# Altium footprint library Footprint-Lib-ABahlmann-SMD.PcbLib: 105 footprints (part 7 of 7)
Each footprint in its own frame and in the unit in brackets; x right, y up, seen from the top. Pads: shape width x height; smd on the part's side, far side on the other; paste and mask are expansions set on the pad; w line width, h text height; cw(c..) or ccw(c..) is an arc to the next point about the centre after c.
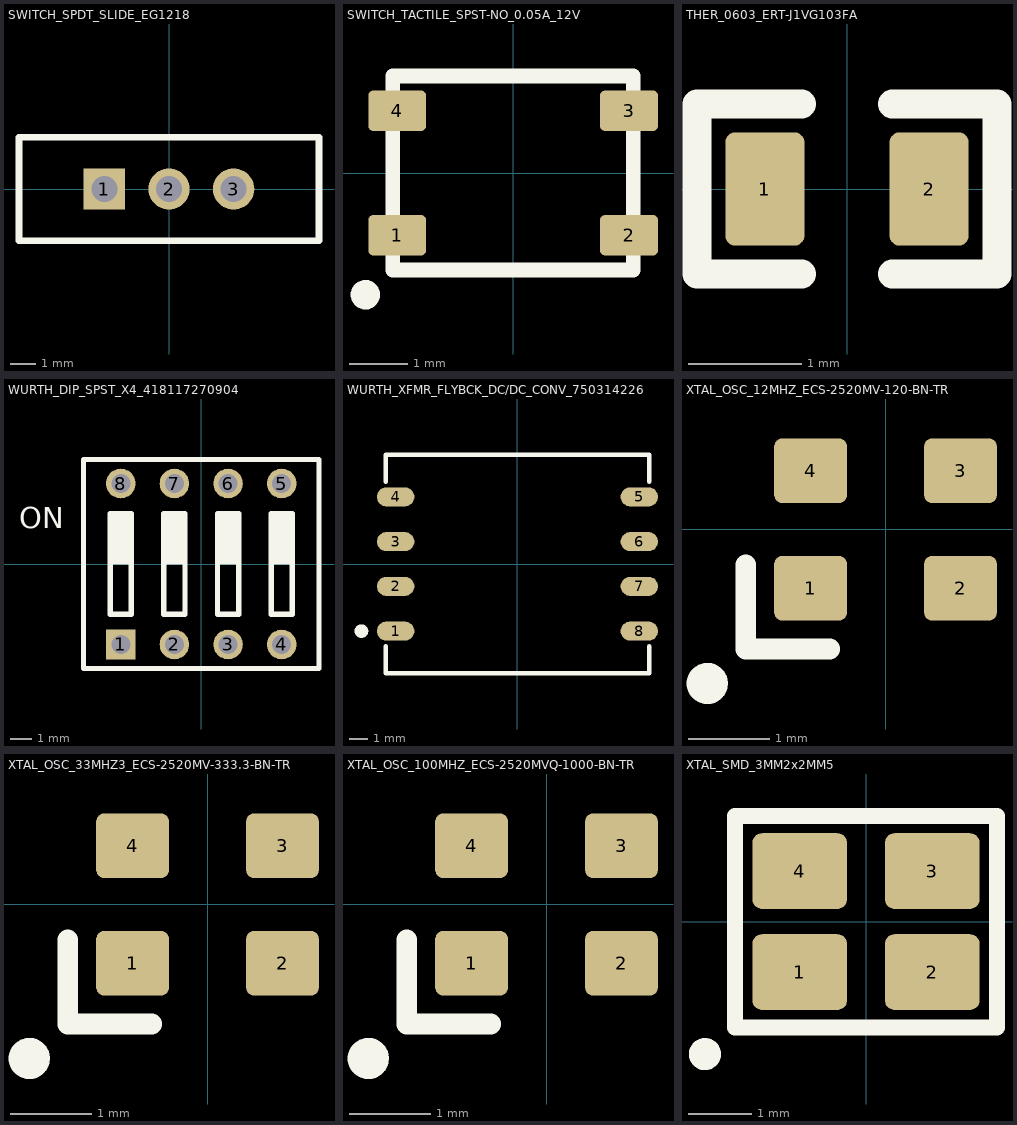
[diagram p6: the footprints below, top view; thin cyan lines are the x and y axes]

## SWITCH_SPDT_SLIDE_EG1218 [mm] "Slide Switch SPDT Through Hole"
pads (3):
  rect 1.6x1.6 hole 1: 1(-2.5,0)
  round 1.6 hole 1: 2(0,0) 3(2.5,0)
Top Overlay:
  lines w0.254: -5.8,-2 -5.8,2 5.8,2 5.8,-2 -5.8,-2
3D body "EG1218.stp": height 7.41, standoff -4.69, extent -5.8,-2 5.8,2

## SWITCH_TACTILE_SPST-NO_0.05A_12V [mm]
pads (4):
  rrect25% 1x0.7 smd: 1(-2,-1.075) 2(2,-1.075) 3(2,1.075) 4(-2,1.075)
Top Overlay:
  circle w0.254: c-2.55,-2.1 r0.127
  lines w0.254: -2.075,-1.675 2.075,-1.675 2.075,1.675 -2.075,1.675 -2.075,-1.675

## THER_0603_ERT-J1VG103FA [mm] "NTC Thermistor 10k 0603 (1608 Metric)"
pads (2):
  rrect25% 0.7x1 smd: 1(-0.725,0) 2(0.725,0)
Top Overlay:
  lines w0.254: -0.4,-0.75 -1.325,-0.75 -1.325,0.75 -0.4,0.75 ; 0.4,-0.75 1.325,-0.75 1.325,0.75 0.4,0.75
3D body "ERT-J1VG103FA.STEP": height 0.91, standoff 0.01, extent -0.8,-0.4 0.8,0.4

## WURTH_DIP_SPST_X4_418117270904 [mm] "Dip Switch SPST 4 Position Through Hole Slide (Standard) Actuator 25mA 24VDC"
pads (8):
  rect 1.4x1.4 hole 0.9: 1(-3.81,-3.81)
  round 1.4 hole 0.9: 2(-1.27,-3.81) 3(1.27,-3.81) 4(3.81,-3.81) 5(3.81,3.81) 6(1.27,3.81) 7(-1.27,3.81) 8(-3.81,3.81)
Top Overlay:
  region: 0.77,2.375 1.77,2.375 1.77,0 0.77,0
  region: 3.31,2.375 4.31,2.375 4.31,0 3.31,0
  region: -1.77,2.375 -0.77,2.375 -0.77,0 -1.77,0
  region: -4.31,2.375 -3.31,2.375 -3.31,0 -4.31,0
  lines w0.254: -5.575,-4.95 5.575,-4.95 5.575,4.95 -5.575,4.95 -5.575,-4.95 ; -4.31,-2.375 -3.31,-2.375 -3.31,2.375 -4.31,2.375 -4.31,-2.375 ; -1.77,-2.375 -0.77,-2.375 -0.77,2.375 -1.77,2.375 -1.77,-2.375 ; 0.77,-2.375 1.77,-2.375 1.77,2.375 0.77,2.375 0.77,-2.375 ; 3.31,-2.375 4.31,-2.375 4.31,2.375 3.31,2.375 3.31,-2.375
  text "ON" at -8.628,1.7 h1
3D body "418117270904.stp": height 6.86, standoff -3.69, extent -5.58,-4.95 5.58,4.95

## WURTH_XFMR_FLYBCK_DC/DC_CONV_750314226 [mm] "Flyback Converters For For DC/DC Converters SMPS Transformer 1500Vrms Isolation 250 ~ 600kHz Surface Mount"
pads (8):
  oval 2.08x1.07 smd: 1(-6.78,-3.735) 2(-6.78,-1.245) 3(-6.78,1.245) 4(-6.78,3.735) 5(6.78,3.735) 6(6.78,1.245) 7(6.78,-1.245) 8(6.78,-3.735)
Top Overlay:
  circle w0.38: c-8.685,-3.735 r0.191
  lines w0.254: -7.325,-4.575 -7.325,-6.075 7.325,-6.075 7.325,-4.575 ; -7.325,4.575 -7.325,6.075 7.325,6.075 7.325,4.575
3D body "750314226.STEP": height 10.79, standoff 0.01, extent -7.305,-6.07 7.315,6.06

## XTAL_OSC_12MHZ_ECS-2520MV-120-BN-TR [mm] "12 MHz XO (Standard) HCMOS Oscillator 1.6V ~ 3.6V Enable/Disable 4-SMD, No Lead"
pads (4):
  rrect25% 0.9x0.8 smd: 1(-0.925,-0.725) 2(0.925,-0.725) 3(0.925,0.725) 4(-0.925,0.725)
Top Overlay:
  circle w0.254: c-2.2,-1.9 r0.127
  lines w0.254: -1.725,-0.437 -1.725,-1.475 -0.687,-1.475
3D body "ECS-2520MV-120-BN-TR.step": height 0.91, standoff 0.01, extent -1.25,-1 1.25,1

## XTAL_OSC_33MHZ3_ECS-2520MV-333.3-BN-TR [mm] "33.3333 MHz XO (Standard) HCMOS Oscillator 1.6V ~ 3.6V Enable/Disable 4-SMD, No Lead"
pads (4):
  rrect25% 0.9x0.8 smd: 1(-0.925,-0.725) 2(0.925,-0.725) 3(0.925,0.725) 4(-0.925,0.725)
Top Overlay:
  circle w0.254: c-2.2,-1.9 r0.127
  lines w0.254: -1.725,-0.437 -1.725,-1.475 -0.687,-1.475
3D body "ECS-2520MV-120-BN-TR.step": height 0.91, standoff 0.01, extent -1.25,-1 1.25,1

## XTAL_OSC_100MHZ_ECS-2520MVQ-1000-BN-TR [mm] "100 MHz XO (Standard) HCMOS Oscillator 1.6V ~ 3.6V Enable/Disable 4-SMD, No Lead"
pads (4):
  rrect25% 0.9x0.8 smd: 1(-0.925,-0.725) 2(0.925,-0.725) 3(0.925,0.725) 4(-0.925,0.725)
Top Overlay:
  circle w0.254: c-2.2,-1.9 r0.127
  lines w0.254: -1.725,-0.437 -1.725,-1.475 -0.687,-1.475
3D body "ECS-2520MV-120-BN-TR.step": height 0.91, standoff 0.01, extent -1.25,-1 1.25,1

## XTAL_SMD_3MM2x2MM5 [mm]
pads (4):
  rrect25% 1.5x1.2 smd: 1(-1.05,-0.8) 2(1.05,-0.8) 3(1.05,0.8) 4(-1.05,0.8)
Top Overlay:
  circle w0.254: c-2.55,-2.1 r0.127
  lines w0.254: -2.075,-1.675 2.075,-1.675 2.075,1.675 -2.075,1.675 -2.075,-1.675
3D body "SG_310.step": height 1.06, standoff 0.01, extent -1.6,-1.25 1.6,1.25